# EAGLE library part TP4056 (library TP4056)
TP4056 Data sheet <http://goo.gl/J7k8TF> Dave.Calaway Eagle Library <https://goo.gl/Muy1Tr>
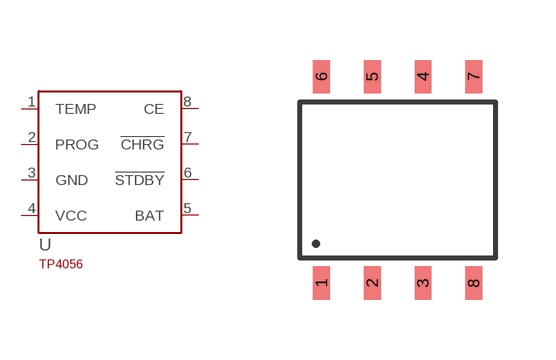
[diagram p0: symbol with the pads of SOT23-8; footprint SOT23-8]

Designator prefix -

## TP4056  [SOT23-8]
1  TEMP
2  PROG
3  GND
4  VCC
5  BAT
6  !STDBY
7  !CHRG
8  CE

## Footprint SOT23-8 (pad centres in mm)
Package SOP-8PP http://goo.gl/2DAeEi
smd 0.42 x 0.835: 1 -1.905,-2.58; 2 -0.635,-2.58; 3 0.635,-2.58; 4 0.635,2.58; 5 -0.635,2.58; 6 -1.905,2.58; 7 1.905,2.58; 8 1.905,-2.58